# Altium footprint library BATT HOLDER_SMTU2032-LF.PcbLib: 1 footprints
Each footprint in its own frame and in the unit in brackets; x right, y up, seen from the top. Pads: shape width x height; smd on the part's side, far side on the other; paste and mask are expansions set on the pad; w line width, h text height; cw(c..) or ccw(c..) is an arc to the next point about the centre after c.
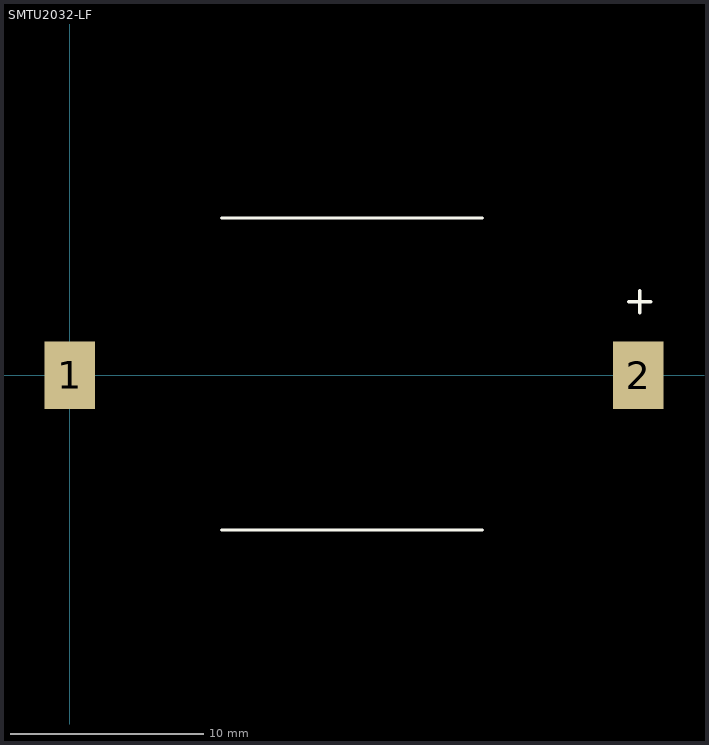
[diagram p0: the footprint, top view; thin cyan lines are the x and y axes]

## SMTU2032-LF [mm]
pads (2):
  rect 2.6x3.5 smd: 1(0,0) 2(29.4,0)
Top Overlay:
  lines w0.178: 7.874,-8.001 21.336,-8.001 ; 7.874,8.128 21.336,8.128 ; 28.892,3.81 30.035,3.81 ; 29.464,3.238 29.464,4.381
3D body "BATT HOLDER_SMTU2032-LF.STEP": height 5.38, standoff -0.02, extent -1.168,-8.05 30.632,8.05